# EAGLE library part BQ76920 (library scono)
https://www.digikey.com/product-detail/en/texas-instruments/BQ7692000PWR/296-39958-1-ND/5177835
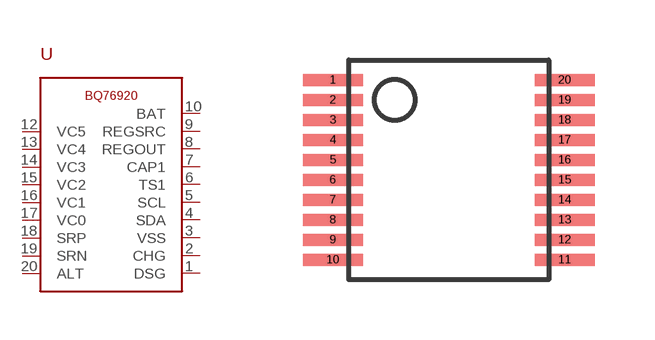
[diagram p40: symbol with the pads of 20_TSSOP; footprint 20_TSSOP]

Designator prefix U

## BQ76920  [20_TSSOP]
1  DSG
2  CHG
3  VSS
4  SDA
5  SCL
6  TS1
7  CAP1
8  REGOUT
9  REGSRC
10  BAT
12  VC5
13  VC4
14  VC3
15  VC2
16  VC1
17  VC0
18  SRP
19  SRN
20  ALT

## Footprint 20_TSSOP (pad centres in mm)
smd 1.5 x 0.3: 1 -2.9,2.5; 2 -2.9,2; 3 -2.9,1.5; 4 -2.9,1; 5 -2.9,0.5; 6 -2.9,0; 7 -2.9,-0.5; 8 -2.9,-1; 9 -2.9,-1.5; 10 -2.9,-2; 11 2.9,-2; 12 2.9,-1.5; 13 2.9,-1; 14 2.9,-0.5; 15 2.9,0; 16 2.9,0.5; 17 2.9,1; 18 2.9,1.5; 19 2.9,2; 20 2.9,2.5